# Altium integrated library Actel Fusion.IntLib: 336 symbols (part 4 of 73)
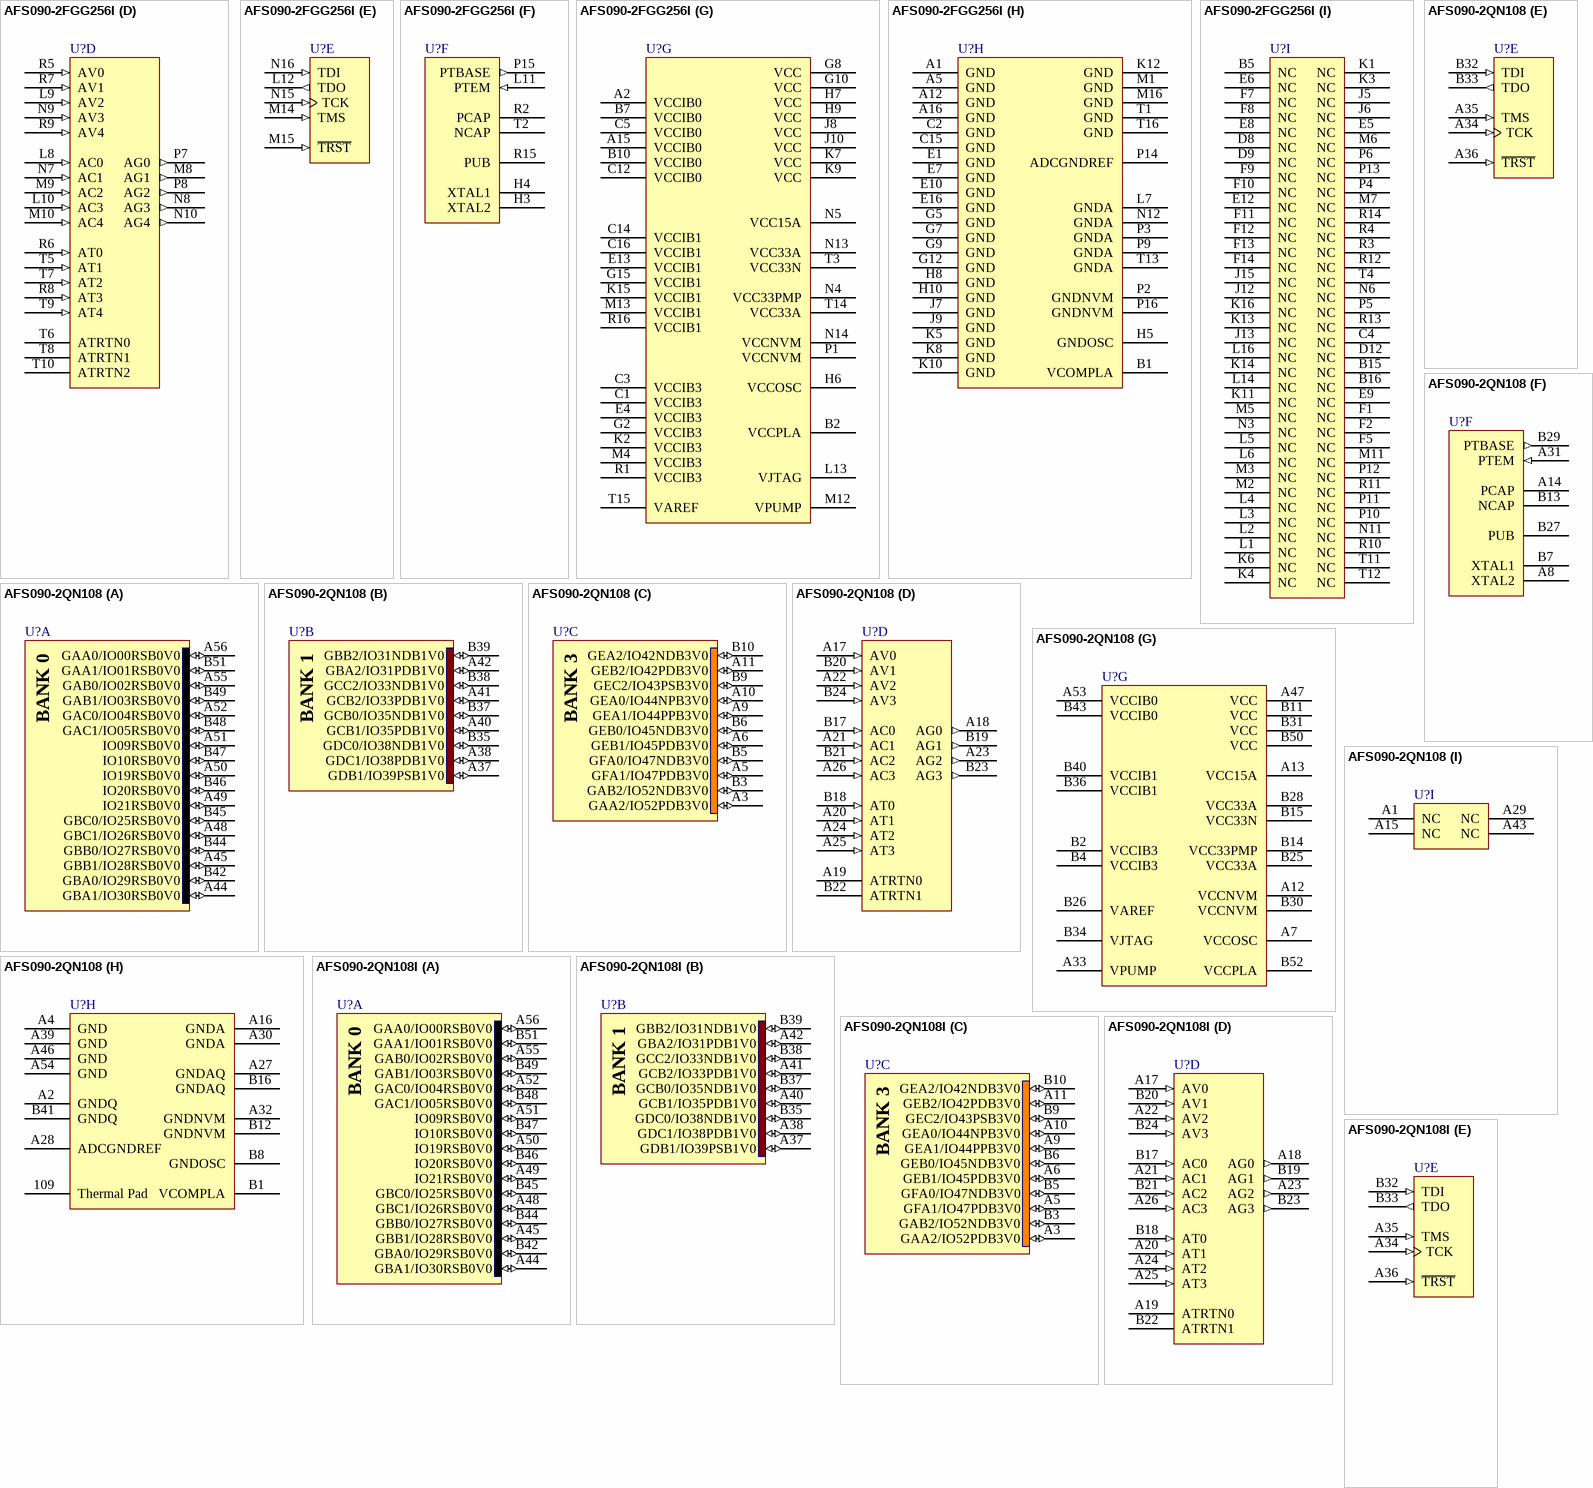
[diagram p394: symbols AFS090-2FGG256I to AFS090-2QN108I]

## AFS090-2FGG256I
designator U?
3.3V Fusion Mixed Signal Flash FPGA, 90,000 System Gates, 256-Pin FBGA, 25% Faster Speed Grade, Industrial Grade, Pb-Free; Published: 30-Jun-2006; LatestRevisionDate: 11-Dec-2009; LatestRevisionNote: Updated to datasheet version 2.0 Jul-2009.; DatasheetVersion: v2.0, Jul-2008; PackageVersion: ver11.2, Nov-2009; PackageReference: FG256; Publisher: Altium Limited; PackageDescription: 256-Ball Fine Pitch Plastic Ball Grid Array 1.00 mm Pitch (FG256); Code_JEDEC: MO-192-DAF-1; ComponentLink1Description: Fusion Datasheet; ComponentLink1URL: http://www.actel.com/documents/Fusion_DS.pdf; ComponentLink2Description: Package Mechanical Drawings; ComponentLink2URL: http://www.actel.com/documents/PckgMechDrwngs.pdf; ComponentLink3Description: Fusion Documents; ComponentLink3URL: http://www.actel.com/products/fusion/docs.aspx; ComponentLink4Description: Actel.com Home; ComponentLink4URL: http://www.actel.com/
footprint FG256 (BGA, 256-Leads, Body 17x17mm, Pitch 1mm)
3D model AFS090-FG256 (256-Ball Fine Pitch Plastic Ball Grid Array 1.00 mm Pitch (FG256))
signal-integrity model AFS090_FG256 (Fusion)
part A pins: A3 GAB0/IO02RSB0V0 (io), A4 GAB1/IO03RSB0V0 (io), A6 IO07RSB0V0 (io), A7 IO10RSB0V0 (io), A8 IO11RSB0V0 (io), A9 IO16RSB0V0 (io), A10 IO17RSB0V0 (io), A11 IO18RSB0V0 (io), A13 GBC0/IO25RSB0V0 (io), A14 GBA0/IO29RSB0V0 (io), B3 GAA0/IO00RSB0V0 (io), B4 GAA1/IO01RSB0V0 (io), B6 IO06RSB0V0 (io), B8 IO12RSB0V0 (io), B9 IO13RSB0V0 (io), B11 IO19RSB0V0 (io), B12 GBB0/IO27RSB0V0 (io), B13 GBC1/IO26RSB0V0 (io), B14 GBA1/IO30RSB0V0 (io), C6 GAC1/IO05RSB0V0 (io), C7 IO09RSB0V0 (io), C8 IO14RSB0V0 (io), C9 IO15RSB0V0 (io), C10 IO22RSB0V0 (io), C11 IO20RSB0V0 (io), C13 GBB1/IO28RSB0V0 (io), D6 GAC0/IO04RSB0V0 (io), D7 IO08RSB0V0 (io), D10 IO21RSB0V0 (io), D11 IO23RSB0V0 (io), E11 IO24RSB0V0 (io)
part B pins: D13 GBA2/IO31PDB1V0 (io), D14 GBB2/IO31NDB1V0 (io), D15 GBC2/IO32PDB1V0 (io), D16 GCA2/IO32NDB1V0 (io), E14 GCC2/IO33NDB1V0 (io), E15 GCB2/IO33PDB1V0 (io), F15 GCC1/IO34PDB1V0 (io), F16 GCC0/IO34NDB1V0 (io), G11 GDA1/IO37NDB1V0 (io), G13 IO37PDB1V0 (io), G14 GCB0/IO35NPB1V0 (io), G16 GCB1/IO35PPB1V0 (io), H11 GDC0/IO38NDB1V0 (io), H12 GDC1/IO38PDB1V0 (io), H13 GDB1/IO39PDB1V0 (io), H14 GDB0/IO39NDB1V0 (io), H15 GCA0/IO36NDB1V0 (io), H16 GCA1/IO36PDB1V0 (io), J11 GDC2/IO41NPB1V0 (io), J14 GDA0/IO40PDB1V0 (io), J16 GDA2/IO40NDB1V0 (io), L15 GDB2/IO41PPB1V0 (io)
part C pins: D1 GFC2/IO50NPB3V0 (io), D2 GFA2/IO51NDB3V0 (io), D3 GAC2/IO51PDB3V0 (io), D4 GAA2/IO52PDB3V0 (io), D5 GAB2/IO52NDB3V0 (io), E2 GFB0/IO48NPB3V0 (io), E3 GFB2/IO50PPB3V0 (io), F3 GFB1/IO48PPB3V0 (io), F4 GFC0/IO49NDB3V0 (io), F6 GFC1/IO49PDB3V0 (io), G1 GEC0/IO46NPB3V0 (io), G3 GEC1/IO46PPB3V0 (io), G4 GFA1/IO47PDB3V0 (io), G6 GFA0/IO47NDB3V0 (io), H1 GEB1/IO45PDB3V0 (io), H2 GEB0/IO45NDB3V0 (io), J1 GEA0/IO44NDB3V0 (io), J2 GEA1/IO44PDB3V0 (io), J3 IO43NDB3V0 (io), J4 GEC2/IO43PDB3V0 (io), N1 GEB2/IO42PDB3V0 (io), N2 GEA2/IO42NDB3V0 (io)
part D pins: L8 AC0 (in) "Analog current pad 0.", L9 AV2 (in) "Analog voltage pad 2.", L10 AC3 (in) "Analog current pad 3.", M8 AG1 (out) "Analog gate driver pad 1.", M9 AC2 (in) "Analog current pad 2.", M10 AC4 (in) "Analog current pad 4.", N7 AC1 (in) "Analog current pad 1.", N8 AG3 (out) "Analog gate driver pad 3.", N9 AV3 (in) "Analog voltage pad 3.", N10 AG4 (out) "Analog gate driver pad 4.", P7 AG0 (out) "Analog gate driver pad 0.", P8 AG2 (out) "Analog gate driver pad 2.", R5 AV0 (in) "Analog voltage pad 0.", R6 AT0 (in) "Analog temperature pad 0.", R7 AV1 (in) "Analog voltage pad 1.", R8 AT3 (in) "Analog temperature pad 3.", R9 AV4 (in) "Analog voltage pad 4.", T5 AT1 (in) "Analog temperature pad 1.", T6 ATRTN0 "Temperature monitor return 0.", T7 AT2 (in) "Analog temperature pad 2.", T8 ATRTN1 "Temperature monitor return 1.", T9 AT4 (in) "Analog temperature pad 4.", T10 ATRTN2 "Temperature monitor return 2."
part E pins: L12 TDO (out), M14 TMS (in), M15 ~{TRST} (in), N15 TCK (in), N16 TDI (in)
part F pins: H3 XTAL2 "Input to crystal oscillator - If using external RC network or clock input, XTAL1 should be used and XTAL2 left unconnected.", H4 XTAL1 "Input to crystal oscillator - If using external RC network or clock input, XTAL1 should be used and XTAL2 left unconnected.", L11 PTEM (in) "PASS TRANSISTOR EMITTER - The feedback input of the voltage regulator.", P15 PTBASE (out) "PASS TRANSISTOR BASE - The control signal of the voltage regulator.", R2 PCAP "POSITIVE CAPACITOR - where the positive terminal of the charge pump capacitor is connected.", R15 PUB "Power up bar - for the external momentary switch which turns on the 1.5V regulator.", T2 NCAP "NEGATIVE CAPACITOR - where the negative terminal of the charge pump capacitor is connected."
part G pins: A2 VCCIB0 (power), A15 VCCIB0 (power), B2 VCCPLA (power), B7 VCCIB0 (power), B10 VCCIB0 (power), C1 VCCIB3 (power), C3 VCCIB3 (power) "Quiet supply voltage to the input buffers of bank 3.", C5 VCCIB0 (power), C12 VCCIB0 (power), C14 VCCIB1 (power) "Quiet supply voltage to the input buffers of bank 1.", C16 VCCIB1 (power), E4 VCCIB3 (power), E13 VCCIB1 (power), G2 VCCIB3 (power), G8 VCC (power), G10 VCC (power), G15 VCCIB1 (power), H6 VCCOSC (power), H7 VCC (power), H9 VCC (power), J8 VCC (power), J10 VCC (power), K2 VCCIB3 (power), K7 VCC (power), K9 VCC (power), K15 VCCIB1 (power), L13 VJTAG (power), M4 VCCIB3 (power), M12 VPUMP (power), M13 VCCIB1 (power), N4 VCC33PMP (power) "3.3V clean analog power supply input for use by the analog charge pump.", N5 VCC15A (power), N13 VCC33A (power), N14 VCCNVM (power) "1.5V power supply used by the Fusion device's Flash memory block module(s).", P1 VCCNVM (power) "1.5V power supply used by the Fusion device's Flash memory block module(s).", R1 VCCIB3 (power), R16 VCCIB1 (power), T3 VCC33N (power) "-3.3V output from the voltage converter. A 2.2µF capacitor must be connected from this pin to ground.", T14 VCC33A (power) "Analog power pin for the analog power supply low pass filter. An external 1µF capacitor should be connected between this pin and ground.", T15 VAREF (power) "Analog reference voltage to be used by analog to digital converter."
part H pins: A1 GND (power), A5 GND (power), A12 GND (power), A16 GND (power), B1 VCOMPLA (power), C2 GND (power), C15 GND (power), E1 GND (power), E7 GND (power), E10 GND (power), E16 GND (power), G5 GND (power), G7 GND (power), G9 GND (power), G12 GND (power), H5 GNDOSC (power) "Oscillator ground.", H8 GND (power), H10 GND (power), J7 GND (power), J9 GND (power), K5 GND (power), K8 GND (power), K10 GND (power), K12 GND (power), L7 GNDA (power), M1 GND (power), M16 GND (power), N12 GNDA (power), P2 GNDNVM (power) "Flash memory ground.", P3 GNDA (power), P9 GNDA (power), P14 ADCGNDREF (power) "Analog ground reference used by the ADC.", P16 GNDNVM (power) "Flash memory ground.", T1 GND (power), T13 GNDA (power), T16 GND (power)
part I pins: B5 NC, B15 NC, B16 NC, C4 NC, D8 NC, D9 NC, D12 NC, E5 NC, E6 NC, E8 NC, E9 NC, E12 NC, F1 NC, F2 NC, F5 NC, F7 NC, F8 NC, F9 NC, F10 NC, F11 NC, F12 NC, F13 NC, F14 NC, J5 NC, J6 NC, J12 NC, J13 NC, J15 NC, K1 NC, K3 NC, K4 NC, K6 NC, K11 NC, K13 NC, K14 NC, K16 NC, L1 NC, L2 NC, L3 NC, L4 NC, L5 NC, L6 NC, L14 NC, L16 NC, M2 NC, M3 NC, M5 NC, M6 NC, M7 NC, M11 NC, N3 NC, N6 NC, N11 NC, P4 NC, P5 NC, P6 NC, P10 NC, P11 NC, P12 NC, P13 NC, R3 NC, R4 NC, R10 NC, R11 NC, R12 NC, R13 NC, R14 NC, T4 NC, T11 NC, T12 NC
part A text: BANK 0
part B text: BANK 1
part C text: BANK 3